# Altium integrated library DCDC_convertor.IntLib: 3 symbols
Pins are listed as number, name and electrical type; pins without a type are passive.

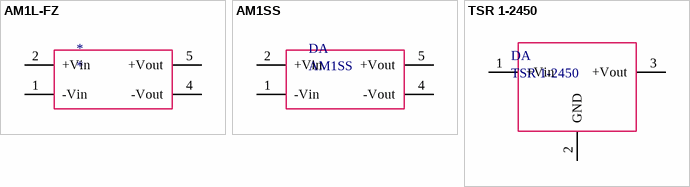
[diagram p0: symbols AM1L-FZ to TSR 1-2450]

## AM1L-FZ
designator *
footprint AM1L-FZ
pins: 1 -Vin, 2 +Vin, 4 -Vout, 5 +Vout

## AM1SS
designator DA
footprint AM1L-FZ
pins: 1 -Vin, 2 +Vin, 4 -Vout, 5 +Vout

## TSR 1-2450
designator DA
Traco power; Output voltage: 5.0; Input voltage range: 6.5-36
footprint TSR-1
pins: 1 +Vin, 2 GND, 3 +Vout